# EAGLE library part TTGO_T-CALL_CONN (library IoWLabs-modules)
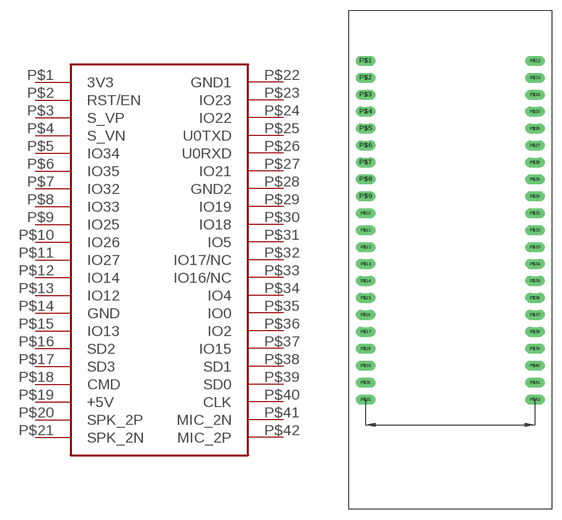
[diagram p0: symbol with the pads of TTGO_T-CALL_CONN_LONGPAD; footprint TTGO_T-CALL_CONN_LONGPAD]

Designator prefix U

## TTGO_T-CALL_CONN  [TTGO_T-CALL_CONN_LONGPAD]
P$1  3V3
P$2  RST/EN
P$3  S_VP
P$4  S_VN
P$5  IO34
P$6  IO35
P$7  IO32
P$8  IO33
P$9  IO25
P$10  IO26
P$11  IO27
P$12  IO14
P$13  IO12
P$14  GND
P$15  IO13
P$16  SD2
P$17  SD3
P$18  CMD
P$19  +5V
P$20  SPK_2P
P$21  SPK_2N
P$22  GND1
P$23  IO23
P$24  IO22
P$25  U0TXD
P$26  U0RXD
P$27  IO21
P$28  GND2
P$29  IO19
P$30  IO18
P$31  IO5
P$32  IO17/NC
P$33  IO16/NC
P$34  IO4
P$35  IO0
P$36  IO2
P$37  IO15
P$38  SD1
P$39  SD0
P$40  CLK
P$41  MIC_2N
P$42  MIC_2P

## Footprint TTGO_T-CALL_CONN_LONGPAD (pad centres in mm)
drill 1 long: P$1 -12.7,25.4; P$2 -12.7,22.86; P$3 -12.7,20.32; P$4 -12.7,17.78; P$5 -12.7,15.24; P$6 -12.7,12.7; P$7 -12.7,10.16; P$8 -12.7,7.62; P$9 -12.7,5.08; P$10 -12.7,2.54; P$11 -12.7,0; P$12 -12.7,-2.54; P$13 -12.7,-5.08; P$14 -12.7,-7.62; P$15 -12.7,-10.16; P$16 -12.7,-12.7; P$17 -12.7,-15.24; P$18 -12.7,-17.78; P$19 -12.7,-20.32; P$20 -12.7,-22.86; P$21 -12.7,-25.4; P$22 12.7,25.4; P$23 12.7,22.86; P$24 12.7,20.32; P$25 12.7,17.78; P$26 12.7,15.24; P$27 12.7,12.7; P$28 12.7,10.16; P$29 12.7,7.62; P$30 12.7,5.08; P$31 12.7,2.54; P$32 12.7,0; P$33 12.7,-2.54; P$34 12.7,-5.08; P$35 12.7,-7.62; P$36 12.7,-10.16; P$37 12.7,-12.7; P$38 12.7,-15.24; P$39 12.7,-17.78; P$40 12.7,-20.32; P$41 12.7,-22.86; P$42 12.7,-25.4